# Altium integrated library National Semiconductor Temperature Sensor.IntLib: 361 symbols (part 1 of 9)
Pins are listed as number, name and electrical type; pins without a type are passive.

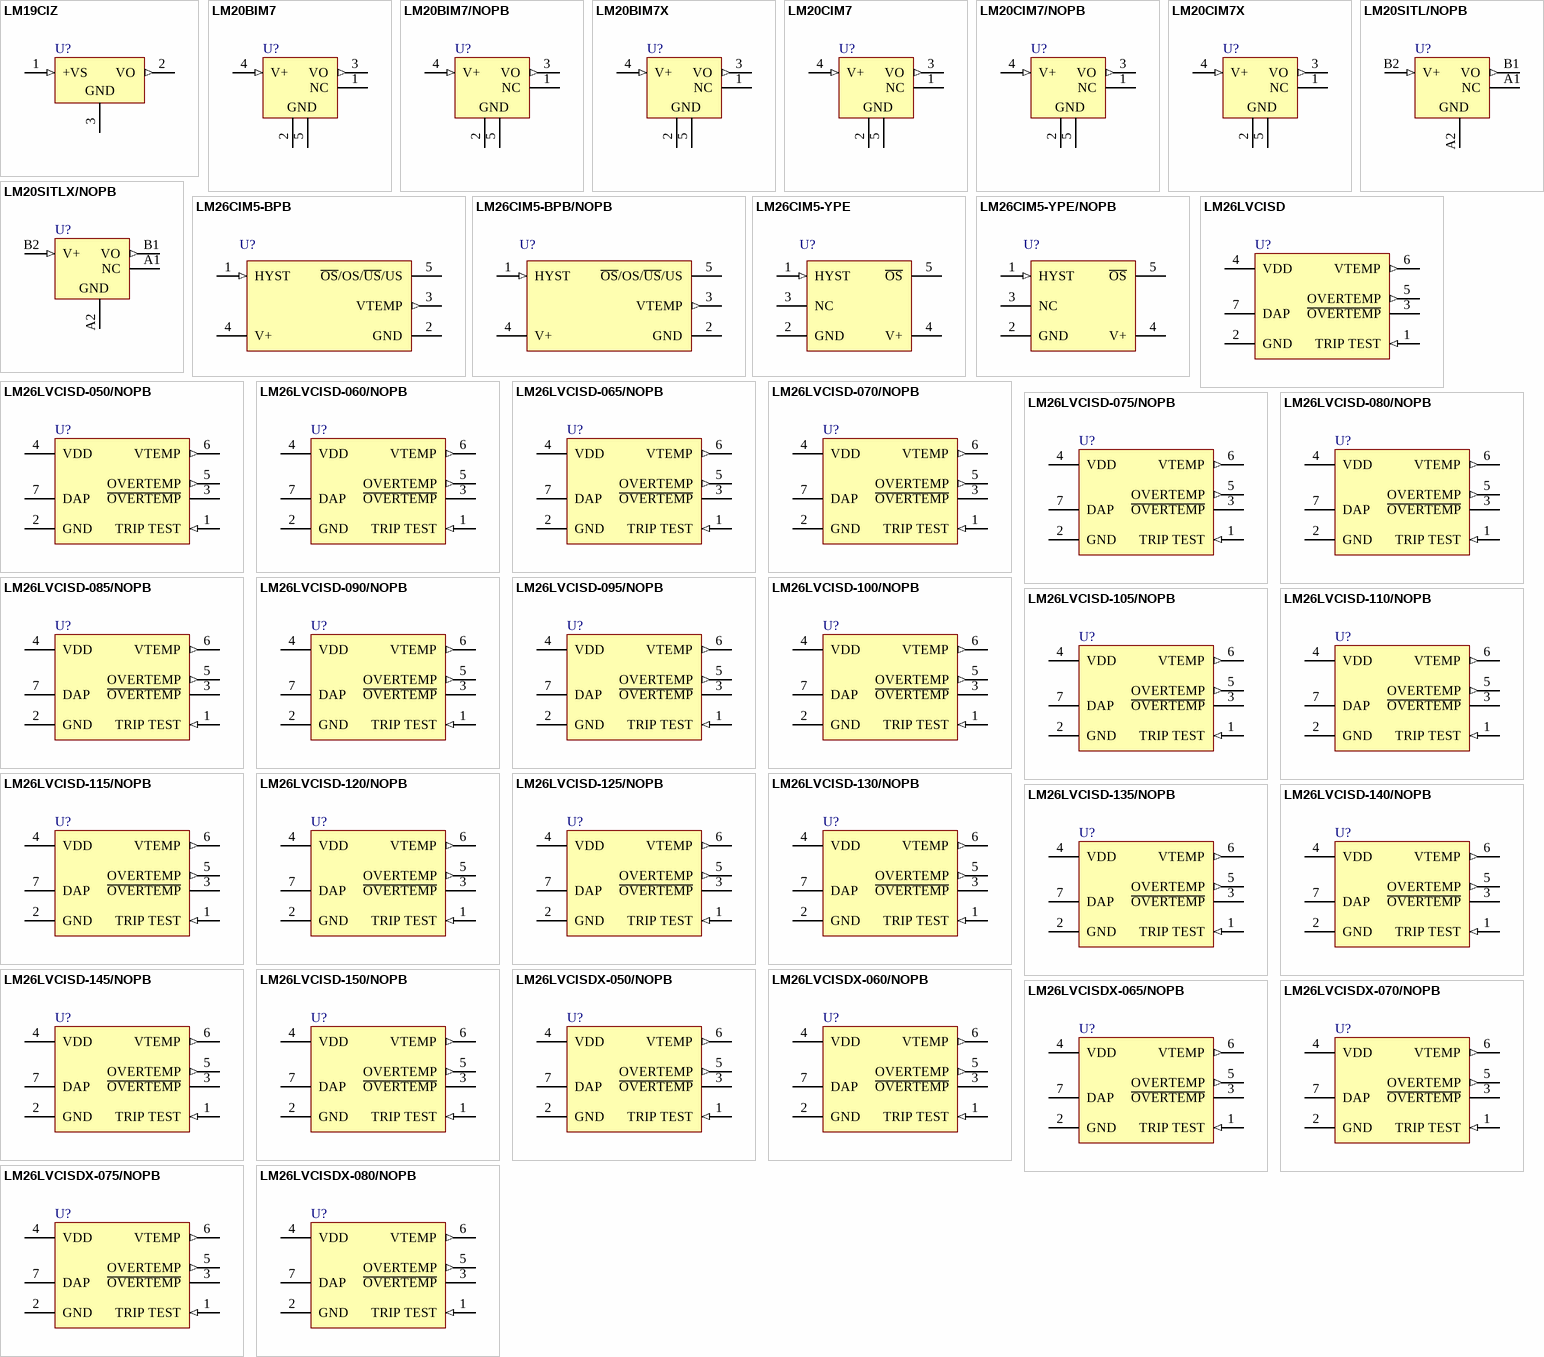
[diagram p0: symbols LM19CIZ to LM26LVCISDX-080/NOPB]

## LM19CIZ
designator U?
2.4V, 10µA Temperature Sensor, 3-pin TO-92; PartNumber: LM19CIZ; Manufacturer: National Semiconductor; PackageTopMarking: NSXYTT*LM19*CIZ; PowerWise: N; CompType: Temp Sensor IC; High-Reliability: Y; DatasheetVersion: Jan-2010; PackageVersion: revG, Sep-2000; PackageReference: Z03A; PackageDescription: TO-92, Molded, 3 Lead; RoHS: N; PinCount: 3; Code_JEDEC: TO-226-AA; ComponentLink1Description: Manufacturer URL; ComponentLink1URL: http://www.national.com/; ComponentLink2Description: LM19 Datasheet; ComponentLink2URL: http://www.national.com/ds/LM/LM19.pdf; ComponentLink3Description: LM19 Web Page; ComponentLink3URL: http://www.national.com/pf/LM/LM19.html; ComponentLink4Description: Z03A Package Page; ComponentLink4URL: http://www.national.com/packaging/folders/z03a.html
footprint Z03A (TO, Flat Index; 3 In-Line, Axial Leads; Body Dia. 5mm; Leads 0.55 x 0.50 mm (max))
pins: 1 +VS (in), 2 VO (out), 3 GND (power)

## LM20BIM7
designator U?
2.4V, 10µA Temperature Sensor, 5-pin SC-70 Micro SMD; PartNumber: LM20BIM7; Manufacturer: National Semiconductor; PackageTopMarking: T2B*XTT; PowerWise: N; CompType: Temp Sensor IC; High-Reliability: Y; DatasheetVersion: Jan-2010; PackageVersion: revD, Jun-2007; PackageReference: MAA05A; PackageDescription: Molded SC-70, 2 x 1.25 x .9mm, 5 Lead, 0.65mm Pitch; RoHS: N; PinCount: 5; Code_JEITA: SC-88A; Code_JEDEC: MO-203-AA; Code_IPC: SOT353-5; ComponentLink1Description: Manufacturer URL; ComponentLink1URL: http://www.national.com/; ComponentLink2Description: LM20 Datasheet; ComponentLink2URL: http://www.national.com/ds/LM/LM20.pdf; ComponentLink3Description: LM20 Web Page; ComponentLink3URL: http://www.national.com/pf/LM/LM20.html; ComponentLink4Description: MAA05A Package Page; ComponentLink4URL: http://www.national.com/packaging/folders/maa05a.html
footprint MAA05A_N (SOT353, 5-Leads, Body 2x1.3mm, Pitch 0.65mm, Lead Span 2.1mm, IPC Medium Density)
footprint MAA05A_L (SOT353, 5-Leads, Body 2x1.3mm, Pitch 0.65mm, Lead Span 2.1mm, IPC High Density)
footprint MAA05A_M (SOT353, 5-Leads, Body 2x1.3mm, Pitch 0.65mm, Lead Span 2.1mm, IPC Low Density)
pins: 1 NC "Not Connected", 2 GND (power) "Ground", 3 VO (out), 4 V+ (in), 5 GND (power) "Ground"

## LM20BIM7/NOPB
designator U?
2.4V, 10µA Temperature Sensor, 5-pin SC-70 Micro SMD, Pb-Free; PartNumber: LM20BIM7/NOPB; Manufacturer: National Semiconductor; PackageTopMarking: T2B*XTT; PowerWise: N; CompType: Temp Sensor IC; High-Reliability: Y; DatasheetVersion: Jan-2010; PackageVersion: revD, Jun-2007; PackageReference: MAA05A; PackageDescription: Molded SC-70, 2 x 1.25 x .9mm, 5 Lead, 0.65mm Pitch; RoHS: Y; PinCount: 5; Code_JEITA: SC-88A; Code_JEDEC: MO-203-AA; Code_IPC: SOT353-5; ComponentLink1Description: Manufacturer URL; ComponentLink1URL: http://www.national.com/; ComponentLink2Description: LM20 Datasheet; ComponentLink2URL: http://www.national.com/ds/LM/LM20.pdf; ComponentLink3Description: LM20 Web Page; ComponentLink3URL: http://www.national.com/pf/LM/LM20.html; ComponentLink4Description: MAA05A Package Page; ComponentLink4URL: http://www.national.com/packaging/folders/maa05a.html
footprint MAA05A_N (SOT353, 5-Leads, Body 2x1.3mm, Pitch 0.65mm, Lead Span 2.1mm, IPC Medium Density)
footprint MAA05A_L (SOT353, 5-Leads, Body 2x1.3mm, Pitch 0.65mm, Lead Span 2.1mm, IPC High Density)
footprint MAA05A_M (SOT353, 5-Leads, Body 2x1.3mm, Pitch 0.65mm, Lead Span 2.1mm, IPC Low Density)
pins: 1 NC "Not Connected", 2 GND (power) "Ground", 3 VO (out), 4 V+ (in), 5 GND (power) "Ground"

## LM20BIM7X
designator U?
2.4V, 10µA Temperature Sensor, 5-pin SC-70 Micro SMD; PartNumber: LM20BIM7X; Manufacturer: National Semiconductor; PackageTopMarking: T2B*XTT; PowerWise: N; CompType: Temp Sensor IC; High-Reliability: Y; DatasheetVersion: Jan-2010; PackageVersion: revD, Jun-2007; PackageReference: MAA05A; PackageDescription: Molded SC-70, 2 x 1.25 x .9mm, 5 Lead, 0.65mm Pitch; RoHS: N; PinCount: 5; Code_JEITA: SC-88A; Code_JEDEC: MO-203-AA; Code_IPC: SOT353-5; ComponentLink1Description: Manufacturer URL; ComponentLink1URL: http://www.national.com/; ComponentLink2Description: LM20 Datasheet; ComponentLink2URL: http://www.national.com/ds/LM/LM20.pdf; ComponentLink3Description: LM20 Web Page; ComponentLink3URL: http://www.national.com/pf/LM/LM20.html; ComponentLink4Description: MAA05A Package Page; ComponentLink4URL: http://www.national.com/packaging/folders/maa05a.html
footprint MAA05A_N (SOT353, 5-Leads, Body 2x1.3mm, Pitch 0.65mm, Lead Span 2.1mm, IPC Medium Density)
footprint MAA05A_L (SOT353, 5-Leads, Body 2x1.3mm, Pitch 0.65mm, Lead Span 2.1mm, IPC High Density)
footprint MAA05A_M (SOT353, 5-Leads, Body 2x1.3mm, Pitch 0.65mm, Lead Span 2.1mm, IPC Low Density)
pins: 1 NC "Not Connected", 2 GND (power) "Ground", 3 VO (out), 4 V+ (in), 5 GND (power) "Ground"

## LM20CIM7
designator U?
2.4V, 10uA Temperature Sensor, 5-pin SC-70 Micro SMD; PartNumber: LM20CIM7; Manufacturer: National Semiconductor; PackageTopMarking: T2C*XTT; PowerWise: N; CompType: Temp Sensor IC; High-Reliability: Y; DatasheetVersion: Jan-2010; PackageVersion: revD, Jun-2007; PackageReference: MAA05A; PackageDescription: Molded SC-70, 2 x 1.25 x .9mm, 5 Lead, 0.65mm Pitch; RoHS: N; PinCount: 5; Code_JEITA: SC-88A; Code_JEDEC: MO-203-AA; Code_IPC: SOT353-5; ComponentLink1Description: Manufacturer URL; ComponentLink1URL: http://www.national.com/; ComponentLink2Description: LM20 Datasheet; ComponentLink2URL: http://www.national.com/ds/LM/LM20.pdf; ComponentLink3Description: LM20 Web Page; ComponentLink3URL: http://www.national.com/pf/LM/LM20.html; ComponentLink4Description: MAA05A Package Page; ComponentLink4URL: http://www.national.com/packaging/folders/maa05a.html
footprint MAA05A_N (SOT353, 5-Leads, Body 2x1.3mm, Pitch 0.65mm, Lead Span 2.1mm, IPC Medium Density)
footprint MAA05A_L (SOT353, 5-Leads, Body 2x1.3mm, Pitch 0.65mm, Lead Span 2.1mm, IPC High Density)
footprint MAA05A_M (SOT353, 5-Leads, Body 2x1.3mm, Pitch 0.65mm, Lead Span 2.1mm, IPC Low Density)
pins: 1 NC "Not Connected", 2 GND (power) "Ground", 3 VO (out), 4 V+ (in), 5 GND (power) "Ground"

## LM20CIM7/NOPB
designator U?
2.4V, 10µA Temperature Sensor, 5-pin SC-70 Micro SMD, Pb-Free; PartNumber: LM20CIM7/NOPB; Manufacturer: National Semiconductor; PackageTopMarking: T2C*XTT; PowerWise: N; CompType: Temp Sensor IC; High-Reliability: Y; DatasheetVersion: Jan-2010; PackageVersion: revD, Jun-2007; PackageReference: MAA05A; PackageDescription: Molded SC-70, 2 x 1.25 x .9mm, 5 Lead, 0.65mm Pitch; RoHS: Y; PinCount: 5; Code_JEITA: SC-88A; Code_JEDEC: MO-203-AA; Code_IPC: SOT353-5; ComponentLink1Description: Manufacturer URL; ComponentLink1URL: http://www.national.com/; ComponentLink2Description: LM20 Datasheet; ComponentLink2URL: http://www.national.com/ds/LM/LM20.pdf; ComponentLink3Description: LM20 Web Page; ComponentLink3URL: http://www.national.com/pf/LM/LM20.html; ComponentLink4Description: MAA05A Package Page; ComponentLink4URL: http://www.national.com/packaging/folders/maa05a.html
footprint MAA05A_N (SOT353, 5-Leads, Body 2x1.3mm, Pitch 0.65mm, Lead Span 2.1mm, IPC Medium Density)
footprint MAA05A_L (SOT353, 5-Leads, Body 2x1.3mm, Pitch 0.65mm, Lead Span 2.1mm, IPC High Density)
footprint MAA05A_M (SOT353, 5-Leads, Body 2x1.3mm, Pitch 0.65mm, Lead Span 2.1mm, IPC Low Density)
pins: 1 NC "Not Connected", 2 GND (power) "Ground", 3 VO (out), 4 V+ (in), 5 GND (power) "Ground"

## LM20CIM7X
designator U?
2.4V, 10µA Temperature Sensor, 5-pin SC-70 Micro SMD; PartNumber: LM20CIM7X; Manufacturer: National Semiconductor; PackageTopMarking: T2C*XTT; PowerWise: N; CompType: Temp Sensor IC; High-Reliability: Y; DatasheetVersion: Jan-2010; PackageVersion: revD, Jun-2007; PackageReference: MAA05A; PackageDescription: Molded SC-70, 2 x 1.25 x .9mm, 5 Lead, 0.65mm Pitch; RoHS: N; PinCount: 5; Code_JEITA: SC-88A; Code_JEDEC: MO-203-AA; Code_IPC: SOT353-5; ComponentLink1Description: Manufacturer URL; ComponentLink1URL: http://www.national.com/; ComponentLink2Description: LM20 Datasheet; ComponentLink2URL: http://www.national.com/ds/LM/LM20.pdf; ComponentLink3Description: LM20 Web Page; ComponentLink3URL: http://www.national.com/pf/LM/LM20.html; ComponentLink4Description: MAA05A Package Page; ComponentLink4URL: http://www.national.com/packaging/folders/maa05a.html
footprint MAA05A_N (SOT353, 5-Leads, Body 2x1.3mm, Pitch 0.65mm, Lead Span 2.1mm, IPC Medium Density)
footprint MAA05A_L (SOT353, 5-Leads, Body 2x1.3mm, Pitch 0.65mm, Lead Span 2.1mm, IPC High Density)
footprint MAA05A_M (SOT353, 5-Leads, Body 2x1.3mm, Pitch 0.65mm, Lead Span 2.1mm, IPC Low Density)
pins: 1 NC "Not Connected", 2 GND (power) "Ground", 3 VO (out), 4 V+ (in), 5 GND (power) "Ground"

## LM20SITL/NOPB
designator U?
2.4V, 10µA Temperature Sensor, 4-pin SC-70 Micro SMD, Pb-Free; PartNumber: LM20SITL/NOPB; Manufacturer: National Semiconductor; PackageTopMarking: X*I; PowerWise: N; CompType: Temp Sensor IC; High-Reliability: Y; DatasheetVersion: Jan-2010; PackageVersion: revD, Mar-2005; PackageReference: TLA04ZZA; PackageDescription: Thin Micro SMD, 4 Bump (Large), 0.5mm Pitch; RoHS: Y; PinCount: 4; Code_JEDEC: MO-211-BA; ComponentLink1Description: Manufacturer URL; ComponentLink1URL: http://www.national.com/; ComponentLink2Description: LM20 Datasheet; ComponentLink2URL: http://www.national.com/ds/LM/LM20.pdf; ComponentLink3Description: LM20 Web Page; ComponentLink3URL: http://www.national.com/pf/LM/LM20.html; ComponentLink4Description: TLA04ZZA Package Page; ComponentLink4URL: http://www.national.com/packaging/folders/tla04zza.html
footprint TLA04ZZA (Micro SMD, 4-Leads, Body 0.96x0.96mm, Pitch 0.5mm, NSC Recommended)
pins: A1 NC "Ground", A2 GND (power) "Ground", B1 VO (out), B2 V+ (in)

## LM20SITLX/NOPB
designator U?
2.4V, 10µA Temperature Sensor, 4-pin SC-70 Micro SMD, Pb-Free; PartNumber: LM20SITLX/NOPB; Manufacturer: National Semiconductor; PackageTopMarking: X*I; PowerWise: N; CompType: Temp Sensor IC; High-Reliability: Y; DatasheetVersion: Jan-2010; PackageVersion: revD, Mar-2005; PackageReference: TLA04ZZA; PackageDescription: Thin Micro SMD, 4 Bump (Large), 0.5mm Pitch; RoHS: Y; PinCount: 4; Code_JEDEC: MO-211-BA; ComponentLink1Description: Manufacturer URL; ComponentLink1URL: http://www.national.com/; ComponentLink2Description: LM20 Datasheet; ComponentLink2URL: http://www.national.com/ds/LM/LM20.pdf; ComponentLink3Description: LM20 Web Page; ComponentLink3URL: http://www.national.com/pf/LM/LM20.html; ComponentLink4Description: TLA04ZZA Package Page; ComponentLink4URL: http://www.national.com/packaging/folders/tla04zza.html
footprint TLA04ZZA (Micro SMD, 4-Leads, Body 0.96x0.96mm, Pitch 0.5mm, NSC Recommended)
pins: A1 NC "Ground", A2 GND (power) "Ground", B1 VO (out), B2 V+ (in)

## LM26CIM5-BPB
designator U?
±3°C Accurate, Factory Preset Thermostat, 5-pin SOT-23; PartNumber: LM26CIM5-BPB; Manufacturer: National Semiconductor; PackageTopMarking: TBPB*XTT; PowerWise: N; CompType: Temp Sensor IC; High-Reliability: Y; DatasheetVersion: Sep-2009; PackageVersion: revD, Aug-2008; PackageReference: MF05A; PackageDescription: Molded SOT-23, .115 x .063 x .040 in Body, 5 Lead, .0375 in Pitch; RoHS: Y; PinCount: 5; ComponentLink1Description: Manufacturer URL; ComponentLink1URL: http://www.national.com/; ComponentLink2Description: LM26 Datasheet; ComponentLink2URL: http://www.national.com/ds/LM/LM26.pdf; ComponentLink3Description: LM26 Web Page; ComponentLink3URL: http://www.national.com/pf/LM/LM26.html; ComponentLink4Description: MF05A Package Page; ComponentLink4URL: http://www.national.com/packaging/folders/mf05a.html
footprint MF05A_N (SOT23, 5-Leads, Body 2.9x1.6mm, Pitch 0.95mm, Lead Span 2.8mm, IPC Medium Density)
footprint MF05A_L (SOT23, 5-Leads, Body 2.9x1.6mm, Pitch 0.95mm, Lead Span 2.8mm, IPC High Density)
footprint MF05A_M (SOT23, 5-Leads, Body 2.9x1.6mm, Pitch 0.95mm, Lead Span 2.8mm, IPC Low Density)
pins: 1 HYST (in), 2 GND (power), 3 VTEMP (out), 4 V+ (power), 5 ~{OS}/OS/~{US}/US

## LM26CIM5-BPB/NOPB
designator U?
±3°C Accurate, Factory Preset Thermostat, 5-pin SOT-23, Pb-Free; PartNumber: LM26CIM5-BPB/NOPB; Manufacturer: National Semiconductor; PackageTopMarking: TBPB*XTT; PowerWise: N; CompType: Temp Sensor IC; High-Reliability: Y; DatasheetVersion: Sep-2009; PackageVersion: revD, Aug-2008; PackageReference: MF05A; PackageDescription: Molded SOT-23, .115 x .063 x .040 in Body, 5 Lead, .0375 in Pitch; RoHS: Y; PinCount: 5; ComponentLink1Description: Manufacturer URL; ComponentLink1URL: http://www.national.com/; ComponentLink2Description: LM26 Datasheet; ComponentLink2URL: http://www.national.com/ds/LM/LM26.pdf; ComponentLink3Description: LM26 Web Page; ComponentLink3URL: http://www.national.com/pf/LM/LM26.html; ComponentLink4Description: MF05A Package Page; ComponentLink4URL: http://www.national.com/packaging/folders/mf05a.html
footprint MF05A_N (SOT23, 5-Leads, Body 2.9x1.6mm, Pitch 0.95mm, Lead Span 2.8mm, IPC Medium Density)
footprint MF05A_L (SOT23, 5-Leads, Body 2.9x1.6mm, Pitch 0.95mm, Lead Span 2.8mm, IPC High Density)
footprint MF05A_M (SOT23, 5-Leads, Body 2.9x1.6mm, Pitch 0.95mm, Lead Span 2.8mm, IPC Low Density)
pins: 1 HYST (in), 2 GND (power), 3 VTEMP (out), 4 V+ (power), 5 ~{OS}/OS/~{US}/US

## LM26CIM5-YPE
designator U?
±3°C Accurate, Factory Preset Thermostat, 5-pin SOT-23; PartNumber: LM26CIM5-YPE; Manufacturer: National Semiconductor; PackageTopMarking: TYPE*XTT; PowerWise: Y; CompType: Temp Sensor IC; DatasheetVersion: Aug-2008; PackageVersion: revD, Aug-2008; PackageReference: MF05A; PackageDescription: Molded SOT-23, .115 x .063 x .040 in Body, 5 Lead, .0375 in Pitch; RoHS: N; PinCount: 5; High-Reliability: Y; ComponentLink1Description: Manufacturer URL; ComponentLink1URL: http://www.national.com/; ComponentLink2Description: LM26 Datasheet; ComponentLink2URL: http://www.national.com/ds/LM/LM26NV.pdf; ComponentLink3Description: LM26 Web Page; ComponentLink3URL: http://www.national.com/pf/LM/LM26.html; ComponentLink4Description: MF05A Package Page; ComponentLink4URL: http://www.national.com/packaging/folders/mf05a.html
footprint MF05A_N (SOT23, 5-Leads, Body 2.9x1.6mm, Pitch 0.95mm, Lead Span 2.8mm, IPC Medium Density)
footprint MF05A_L (SOT23, 5-Leads, Body 2.9x1.6mm, Pitch 0.95mm, Lead Span 2.8mm, IPC High Density)
footprint MF05A_M (SOT23, 5-Leads, Body 2.9x1.6mm, Pitch 0.95mm, Lead Span 2.8mm, IPC Low Density)
pins: 1 HYST (in), 2 GND (power), 3 NC, 4 V+ (power), 5 ~{OS} (oc)

## LM26CIM5-YPE/NOPB
designator U?
±3°C Accurate, Factory Preset Thermostat (LM26 without Vtemp), 5-pin SOT-23, Pb-Free; PartNumber: LM26CIM5-YPE/NOPB; Manufacturer: National Semiconductor; PackageTopMarking: TYPE*XTT; PowerWise: Y; CompType: Temp Sensor IC; DatasheetVersion: Aug-2008; PackageVersion: revD, Aug-2008; PackageReference: MF05A; PackageDescription: Molded SOT-23, .115 x .063 x .040 in Body, 5 Lead, .0375 in Pitch; RoHS: Y; PinCount: 5; High-Reliability: Y; ComponentLink1Description: Manufacturer URL; ComponentLink1URL: http://www.national.com/; ComponentLink2Description: LM26 Datasheet; ComponentLink2URL: http://www.national.com/ds/LM/LM26NV.pdf; ComponentLink3Description: LM26 Web Page; ComponentLink3URL: http://www.national.com/pf/LM/LM26.html; ComponentLink4Description: MF05A Package Page; ComponentLink4URL: http://www.national.com/packaging/folders/mf05a.html
footprint MF05A_N (SOT23, 5-Leads, Body 2.9x1.6mm, Pitch 0.95mm, Lead Span 2.8mm, IPC Medium Density)
footprint MF05A_L (SOT23, 5-Leads, Body 2.9x1.6mm, Pitch 0.95mm, Lead Span 2.8mm, IPC High Density)
footprint MF05A_M (SOT23, 5-Leads, Body 2.9x1.6mm, Pitch 0.95mm, Lead Span 2.8mm, IPC Low Density)
pins: 1 HYST (in), 2 GND (power), 3 NC, 4 V+ (power), 5 ~{OS} (oc)

## LM26LVCISD
designator U?
1.6V Factory Preset Temperature Switch and Temperature Sensor, 6-pin LLP; PartNumber: LM26LVCISD; Manufacturer: National Semiconductor; PackageTopMarking: XTT*XPE; PowerWise: Y; CompType: Temp Sensor IC; DatasheetVersion: Sep-2011; PackageVersion: revA, Nov-2003; PackageReference: SDB06A; PackageDescription: LLP, Plastic, Dual, 2.2 x 2.5 x 0.8mm Body, 6 Lead, 0.65mm Pitch, No Pullback; RoHS: N; PinCount: 6; High-Reliability: Y; ComponentLink1Description: Manufacturer URL; ComponentLink1URL: http://www.national.com/; ComponentLink2Description: LM26LV Datasheet; ComponentLink2URL: http://www.national.com/ds/LM/LM26LV.pdf; ComponentLink3Description: LM26LV Web Page; ComponentLink3URL: http://www.national.com/pf/LM/LM26LV.html; ComponentLink4Description: SDB06A Package Page; ComponentLink4URL: http://www.national.com/packaging/folders/sdb06a.html
footprint SDB06A (SON, 6-Leads, Body 2.2x2.5mm, Pitch 0.65mm, NSC Recommended (SC-70 Land))
pins: 1 TRIP TEST (in), 2 GND (power) "Ground", 3 ~{OVERTEMP} (oc), 4 VDD (power), 5 OVERTEMP (out), 6 VTEMP (out), 7 DAP (power) "Ground"

## LM26LVCISD-050/NOPB
designator U?
1.6V Factory Preset Temperature Switch and Temperature Sensor, 6-pin LLP, Pb-Free, 1000 Reel; PartNumber: LM26LVCISD-050/NOPB; Manufacturer: National Semiconductor; PackageTopMarking: XTT*050; PowerWise: Y; CompType: Temp Sensor IC; DatasheetVersion: Sep-2011; PackageVersion: revA, Nov-2003; PackageReference: SDB06A; PackageDescription: LLP, Plastic, Dual, 2.2 x 2.5 x 0.8mm Body, 6 Lead, 0.65mm Pitch, No Pullback; RoHS: Y; PinCount: 6; High-Reliability: Y; ComponentLink1Description: Manufacturer URL; ComponentLink1URL: http://www.national.com/; ComponentLink2Description: LM26LV Datasheet; ComponentLink2URL: http://www.national.com/ds/LM/LM26LV.pdf; ComponentLink3Description: LM26LV Web Page; ComponentLink3URL: http://www.national.com/pf/LM/LM26LV.html; ComponentLink4Description: SDB06A Package Page; ComponentLink4URL: http://www.national.com/packaging/folders/sdb06a.html
footprint SDB06A (SON, 6-Leads, Body 2.2x2.5mm, Pitch 0.65mm, NSC Recommended (SC-70 Land))
pins: 1 TRIP TEST (in), 2 GND (power) "Ground", 3 ~{OVERTEMP} (oc), 4 VDD (power), 5 OVERTEMP (out), 6 VTEMP (out), 7 DAP (power) "Ground"

## LM26LVCISD-060/NOPB
designator U?
1.6V Factory Preset Temperature Switch and Temperature Sensor, 6-pin LLP, Pb-Free, 1000 Reel; PartNumber: LM26LVCISD-060/NOPB; Manufacturer: National Semiconductor; PackageTopMarking: XTT*060; PowerWise: Y; CompType: Temp Sensor IC; DatasheetVersion: Sep-2011; PackageVersion: revA, Nov-2003; PackageReference: SDB06A; PackageDescription: LLP, Plastic, Dual, 2.2 x 2.5 x 0.8mm Body, 6 Lead, 0.65mm Pitch, No Pullback; RoHS: Y; PinCount: 6; High-Reliability: Y; ComponentLink1Description: Manufacturer URL; ComponentLink1URL: http://www.national.com/; ComponentLink2Description: LM26LV Datasheet; ComponentLink2URL: http://www.national.com/ds/LM/LM26LV.pdf; ComponentLink3Description: LM26LV Web Page; ComponentLink3URL: http://www.national.com/pf/LM/LM26LV.html; ComponentLink4Description: SDB06A Package Page; ComponentLink4URL: http://www.national.com/packaging/folders/sdb06a.html
footprint SDB06A (SON, 6-Leads, Body 2.2x2.5mm, Pitch 0.65mm, NSC Recommended (SC-70 Land))
pins: 1 TRIP TEST (in), 2 GND (power) "Ground", 3 ~{OVERTEMP} (oc), 4 VDD (power), 5 OVERTEMP (out), 6 VTEMP (out), 7 DAP (power) "Ground"

## LM26LVCISD-065/NOPB
designator U?
1.6V Factory Preset Temperature Switch and Temperature Sensor, 6-pin LLP, Pb-Free, 1000 Reel; PartNumber: LM26LVCISD-065/NOPB; Manufacturer: National Semiconductor; PackageTopMarking: XTT*065; PowerWise: Y; CompType: Temp Sensor IC; DatasheetVersion: Sep-2011; PackageVersion: revA, Nov-2003; PackageReference: SDB06A; PackageDescription: LLP, Plastic, Dual, 2.2 x 2.5 x 0.8mm Body, 6 Lead, 0.65mm Pitch, No Pullback; RoHS: Y; PinCount: 6; High-Reliability: Y; ComponentLink1Description: Manufacturer URL; ComponentLink1URL: http://www.national.com/; ComponentLink2Description: LM26LV Datasheet; ComponentLink2URL: http://www.national.com/ds/LM/LM26LV.pdf; ComponentLink3Description: LM26LV Web Page; ComponentLink3URL: http://www.national.com/pf/LM/LM26LV.html; ComponentLink4Description: SDB06A Package Page; ComponentLink4URL: http://www.national.com/packaging/folders/sdb06a.html
footprint SDB06A (SON, 6-Leads, Body 2.2x2.5mm, Pitch 0.65mm, NSC Recommended (SC-70 Land))
pins: 1 TRIP TEST (in), 2 GND (power) "Ground", 3 ~{OVERTEMP} (oc), 4 VDD (power), 5 OVERTEMP (out), 6 VTEMP (out), 7 DAP (power) "Ground"

## LM26LVCISD-070/NOPB
designator U?
1.6V Factory Preset Temperature Switch and Temperature Sensor, 6-pin LLP, Pb-Free, 1000 Reel; PartNumber: LM26LVCISD-070/NOPB; Manufacturer: National Semiconductor; PackageTopMarking: XTT*070; PowerWise: Y; CompType: Temp Sensor IC; DatasheetVersion: Sep-2011; PackageVersion: revA, Nov-2003; PackageReference: SDB06A; PackageDescription: LLP, Plastic, Dual, 2.2 x 2.5 x 0.8mm Body, 6 Lead, 0.65mm Pitch, No Pullback; RoHS: Y; PinCount: 6; High-Reliability: Y; ComponentLink1Description: Manufacturer URL; ComponentLink1URL: http://www.national.com/; ComponentLink2Description: LM26LV Datasheet; ComponentLink2URL: http://www.national.com/ds/LM/LM26LV.pdf; ComponentLink3Description: LM26LV Web Page; ComponentLink3URL: http://www.national.com/pf/LM/LM26LV.html; ComponentLink4Description: SDB06A Package Page; ComponentLink4URL: http://www.national.com/packaging/folders/sdb06a.html
footprint SDB06A (SON, 6-Leads, Body 2.2x2.5mm, Pitch 0.65mm, NSC Recommended (SC-70 Land))
pins: 1 TRIP TEST (in), 2 GND (power) "Ground", 3 ~{OVERTEMP} (oc), 4 VDD (power), 5 OVERTEMP (out), 6 VTEMP (out), 7 DAP (power) "Ground"

## LM26LVCISD-075/NOPB
designator U?
1.6V Factory Preset Temperature Switch and Temperature Sensor, 6-pin LLP, Pb-Free, 1000 Reel; PartNumber: LM26LVCISD-075/NOPB; Manufacturer: National Semiconductor; PackageTopMarking: XTT*075; PowerWise: Y; CompType: Temp Sensor IC; DatasheetVersion: Sep-2011; PackageVersion: revA, Nov-2003; PackageReference: SDB06A; PackageDescription: LLP, Plastic, Dual, 2.2 x 2.5 x 0.8mm Body, 6 Lead, 0.65mm Pitch, No Pullback; RoHS: Y; PinCount: 6; High-Reliability: Y; ComponentLink1Description: Manufacturer URL; ComponentLink1URL: http://www.national.com/; ComponentLink2Description: LM26LV Datasheet; ComponentLink2URL: http://www.national.com/ds/LM/LM26LV.pdf; ComponentLink3Description: LM26LV Web Page; ComponentLink3URL: http://www.national.com/pf/LM/LM26LV.html; ComponentLink4Description: SDB06A Package Page; ComponentLink4URL: http://www.national.com/packaging/folders/sdb06a.html
footprint SDB06A (SON, 6-Leads, Body 2.2x2.5mm, Pitch 0.65mm, NSC Recommended (SC-70 Land))
pins: 1 TRIP TEST (in), 2 GND (power) "Ground", 3 ~{OVERTEMP} (oc), 4 VDD (power), 5 OVERTEMP (out), 6 VTEMP (out), 7 DAP (power) "Ground"

## LM26LVCISD-080/NOPB
designator U?
1.6V Factory Preset Temperature Switch and Temperature Sensor, 6-pin LLP, Pb-Free, 1000 Reel; PartNumber: LM26LVCISD-080/NOPB; Manufacturer: National Semiconductor; PackageTopMarking: XTT*080; PowerWise: Y; CompType: Temp Sensor IC; DatasheetVersion: Sep-2011; PackageVersion: revA, Nov-2003; PackageReference: SDB06A; PackageDescription: LLP, Plastic, Dual, 2.2 x 2.5 x 0.8mm Body, 6 Lead, 0.65mm Pitch, No Pullback; RoHS: Y; PinCount: 6; High-Reliability: Y; ComponentLink1Description: Manufacturer URL; ComponentLink1URL: http://www.national.com/; ComponentLink2Description: LM26LV Datasheet; ComponentLink2URL: http://www.national.com/ds/LM/LM26LV.pdf; ComponentLink3Description: LM26LV Web Page; ComponentLink3URL: http://www.national.com/pf/LM/LM26LV.html; ComponentLink4Description: SDB06A Package Page; ComponentLink4URL: http://www.national.com/packaging/folders/sdb06a.html
footprint SDB06A (SON, 6-Leads, Body 2.2x2.5mm, Pitch 0.65mm, NSC Recommended (SC-70 Land))
pins: 1 TRIP TEST (in), 2 GND (power) "Ground", 3 ~{OVERTEMP} (oc), 4 VDD (power), 5 OVERTEMP (out), 6 VTEMP (out), 7 DAP (power) "Ground"

## LM26LVCISD-085/NOPB
designator U?
1.6V Factory Preset Temperature Switch and Temperature Sensor, 6-pin LLP, Pb-Free, 1000 Reel; PartNumber: LM26LVCISD-085/NOPB; Manufacturer: National Semiconductor; PackageTopMarking: XTT*085; PowerWise: Y; CompType: Temp Sensor IC; DatasheetVersion: Sep-2011; PackageVersion: revA, Nov-2003; PackageReference: SDB06A; PackageDescription: LLP, Plastic, Dual, 2.2 x 2.5 x 0.8mm Body, 6 Lead, 0.65mm Pitch, No Pullback; RoHS: Y; PinCount: 6; High-Reliability: Y; ComponentLink1Description: Manufacturer URL; ComponentLink1URL: http://www.national.com/; ComponentLink2Description: LM26LV Datasheet; ComponentLink2URL: http://www.national.com/ds/LM/LM26LV.pdf; ComponentLink3Description: LM26LV Web Page; ComponentLink3URL: http://www.national.com/pf/LM/LM26LV.html; ComponentLink4Description: SDB06A Package Page; ComponentLink4URL: http://www.national.com/packaging/folders/sdb06a.html
footprint SDB06A (SON, 6-Leads, Body 2.2x2.5mm, Pitch 0.65mm, NSC Recommended (SC-70 Land))
pins: 1 TRIP TEST (in), 2 GND (power) "Ground", 3 ~{OVERTEMP} (oc), 4 VDD (power), 5 OVERTEMP (out), 6 VTEMP (out), 7 DAP (power) "Ground"

## LM26LVCISD-090/NOPB
designator U?
1.6V Factory Preset Temperature Switch and Temperature Sensor, 6-pin LLP, Pb-Free, 1000 Reel; PartNumber: LM26LVCISD-090/NOPB; Manufacturer: National Semiconductor; PackageTopMarking: XTT*090; PowerWise: Y; CompType: Temp Sensor IC; DatasheetVersion: Sep-2011; PackageVersion: revA, Nov-2003; PackageReference: SDB06A; PackageDescription: LLP, Plastic, Dual, 2.2 x 2.5 x 0.8mm Body, 6 Lead, 0.65mm Pitch, No Pullback; RoHS: Y; PinCount: 6; High-Reliability: Y; ComponentLink1Description: Manufacturer URL; ComponentLink1URL: http://www.national.com/; ComponentLink2Description: LM26LV Datasheet; ComponentLink2URL: http://www.national.com/ds/LM/LM26LV.pdf; ComponentLink3Description: LM26LV Web Page; ComponentLink3URL: http://www.national.com/pf/LM/LM26LV.html; ComponentLink4Description: SDB06A Package Page; ComponentLink4URL: http://www.national.com/packaging/folders/sdb06a.html
footprint SDB06A (SON, 6-Leads, Body 2.2x2.5mm, Pitch 0.65mm, NSC Recommended (SC-70 Land))
pins: 1 TRIP TEST (in), 2 GND (power) "Ground", 3 ~{OVERTEMP} (oc), 4 VDD (power), 5 OVERTEMP (out), 6 VTEMP (out), 7 DAP (power) "Ground"

## LM26LVCISD-095/NOPB
designator U?
1.6V Factory Preset Temperature Switch and Temperature Sensor, 6-pin LLP, Pb-Free, 1000 Reel; PartNumber: LM26LVCISD-095/NOPB; Manufacturer: National Semiconductor; PackageTopMarking: XTT*095; PowerWise: Y; CompType: Temp Sensor IC; DatasheetVersion: Sep-2011; PackageVersion: revA, Nov-2003; PackageReference: SDB06A; PackageDescription: LLP, Plastic, Dual, 2.2 x 2.5 x 0.8mm Body, 6 Lead, 0.65mm Pitch, No Pullback; RoHS: Y; PinCount: 6; High-Reliability: Y; ComponentLink1Description: Manufacturer URL; ComponentLink1URL: http://www.national.com/; ComponentLink2Description: LM26LV Datasheet; ComponentLink2URL: http://www.national.com/ds/LM/LM26LV.pdf; ComponentLink3Description: LM26LV Web Page; ComponentLink3URL: http://www.national.com/pf/LM/LM26LV.html; ComponentLink4Description: SDB06A Package Page; ComponentLink4URL: http://www.national.com/packaging/folders/sdb06a.html
footprint SDB06A (SON, 6-Leads, Body 2.2x2.5mm, Pitch 0.65mm, NSC Recommended (SC-70 Land))
pins: 1 TRIP TEST (in), 2 GND (power) "Ground", 3 ~{OVERTEMP} (oc), 4 VDD (power), 5 OVERTEMP (out), 6 VTEMP (out), 7 DAP (power) "Ground"

## LM26LVCISD-100/NOPB
designator U?
1.6V Factory Preset Temperature Switch and Temperature Sensor, 6-pin LLP, Pb-Free, 1000 Reel; PartNumber: LM26LVCISD-100/NOPB; Manufacturer: National Semiconductor; PackageTopMarking: XTT*100; PowerWise: Y; CompType: Temp Sensor IC; DatasheetVersion: Sep-2011; PackageVersion: revA, Nov-2003; PackageReference: SDB06A; PackageDescription: LLP, Plastic, Dual, 2.2 x 2.5 x 0.8mm Body, 6 Lead, 0.65mm Pitch, No Pullback; RoHS: Y; PinCount: 6; High-Reliability: Y; ComponentLink1Description: Manufacturer URL; ComponentLink1URL: http://www.national.com/; ComponentLink2Description: LM26LV Datasheet; ComponentLink2URL: http://www.national.com/ds/LM/LM26LV.pdf; ComponentLink3Description: LM26LV Web Page; ComponentLink3URL: http://www.national.com/pf/LM/LM26LV.html; ComponentLink4Description: SDB06A Package Page; ComponentLink4URL: http://www.national.com/packaging/folders/sdb06a.html
footprint SDB06A (SON, 6-Leads, Body 2.2x2.5mm, Pitch 0.65mm, NSC Recommended (SC-70 Land))
pins: 1 TRIP TEST (in), 2 GND (power) "Ground", 3 ~{OVERTEMP} (oc), 4 VDD (power), 5 OVERTEMP (out), 6 VTEMP (out), 7 DAP (power) "Ground"

## LM26LVCISD-105/NOPB
designator U?
1.6V Factory Preset Temperature Switch and Temperature Sensor, 6-pin LLP, Pb-Free, 1000 Reel; PartNumber: LM26LVCISD-105/NOPB; Manufacturer: National Semiconductor; PackageTopMarking: XTT*105; PowerWise: Y; CompType: Temp Sensor IC; DatasheetVersion: Sep-2011; PackageVersion: revA, Nov-2003; PackageReference: SDB06A; PackageDescription: LLP, Plastic, Dual, 2.2 x 2.5 x 0.8mm Body, 6 Lead, 0.65mm Pitch, No Pullback; RoHS: Y; PinCount: 6; High-Reliability: Y; ComponentLink1Description: Manufacturer URL; ComponentLink1URL: http://www.national.com/; ComponentLink2Description: LM26LV Datasheet; ComponentLink2URL: http://www.national.com/ds/LM/LM26LV.pdf; ComponentLink3Description: LM26LV Web Page; ComponentLink3URL: http://www.national.com/pf/LM/LM26LV.html; ComponentLink4Description: SDB06A Package Page; ComponentLink4URL: http://www.national.com/packaging/folders/sdb06a.html
footprint SDB06A (SON, 6-Leads, Body 2.2x2.5mm, Pitch 0.65mm, NSC Recommended (SC-70 Land))
pins: 1 TRIP TEST (in), 2 GND (power) "Ground", 3 ~{OVERTEMP} (oc), 4 VDD (power), 5 OVERTEMP (out), 6 VTEMP (out), 7 DAP (power) "Ground"

## LM26LVCISD-110/NOPB
designator U?
1.6V Factory Preset Temperature Switch and Temperature Sensor, 6-pin LLP, Pb-Free, 1000 Reel; PartNumber: LM26LVCISD-110/NOPB; Manufacturer: National Semiconductor; PackageTopMarking: XTT*110; PowerWise: Y; CompType: Temp Sensor IC; DatasheetVersion: Sep-2011; PackageVersion: revA, Nov-2003; PackageReference: SDB06A; PackageDescription: LLP, Plastic, Dual, 2.2 x 2.5 x 0.8mm Body, 6 Lead, 0.65mm Pitch, No Pullback; RoHS: Y; PinCount: 6; High-Reliability: Y; ComponentLink1Description: Manufacturer URL; ComponentLink1URL: http://www.national.com/; ComponentLink2Description: LM26LV Datasheet; ComponentLink2URL: http://www.national.com/ds/LM/LM26LV.pdf; ComponentLink3Description: LM26LV Web Page; ComponentLink3URL: http://www.national.com/pf/LM/LM26LV.html; ComponentLink4Description: SDB06A Package Page; ComponentLink4URL: http://www.national.com/packaging/folders/sdb06a.html
footprint SDB06A (SON, 6-Leads, Body 2.2x2.5mm, Pitch 0.65mm, NSC Recommended (SC-70 Land))
pins: 1 TRIP TEST (in), 2 GND (power) "Ground", 3 ~{OVERTEMP} (oc), 4 VDD (power), 5 OVERTEMP (out), 6 VTEMP (out), 7 DAP (power) "Ground"

## LM26LVCISD-115/NOPB
designator U?
1.6V Factory Preset Temperature Switch and Temperature Sensor, 6-pin LLP, Pb-Free, 1000 Reel; PartNumber: LM26LVCISD-115/NOPB; Manufacturer: National Semiconductor; PackageTopMarking: XTT*115; PowerWise: Y; CompType: Temp Sensor IC; DatasheetVersion: Sep-2011; PackageVersion: revA, Nov-2003; PackageReference: SDB06A; PackageDescription: LLP, Plastic, Dual, 2.2 x 2.5 x 0.8mm Body, 6 Lead, 0.65mm Pitch, No Pullback; RoHS: Y; PinCount: 6; High-Reliability: Y; ComponentLink1Description: Manufacturer URL; ComponentLink1URL: http://www.national.com/; ComponentLink2Description: LM26LV Datasheet; ComponentLink2URL: http://www.national.com/ds/LM/LM26LV.pdf; ComponentLink3Description: LM26LV Web Page; ComponentLink3URL: http://www.national.com/pf/LM/LM26LV.html; ComponentLink4Description: SDB06A Package Page; ComponentLink4URL: http://www.national.com/packaging/folders/sdb06a.html
footprint SDB06A (SON, 6-Leads, Body 2.2x2.5mm, Pitch 0.65mm, NSC Recommended (SC-70 Land))
pins: 1 TRIP TEST (in), 2 GND (power) "Ground", 3 ~{OVERTEMP} (oc), 4 VDD (power), 5 OVERTEMP (out), 6 VTEMP (out), 7 DAP (power) "Ground"

## LM26LVCISD-120/NOPB
designator U?
1.6V Factory Preset Temperature Switch and Temperature Sensor, 6-pin LLP, Pb-Free, 1000 Reel; PartNumber: LM26LVCISD-120/NOPB; Manufacturer: National Semiconductor; PackageTopMarking: XTT*120; PowerWise: Y; CompType: Temp Sensor IC; DatasheetVersion: Sep-2011; PackageVersion: revA, Nov-2003; PackageReference: SDB06A; PackageDescription: LLP, Plastic, Dual, 2.2 x 2.5 x 0.8mm Body, 6 Lead, 0.65mm Pitch, No Pullback; RoHS: Y; PinCount: 6; High-Reliability: Y; ComponentLink1Description: Manufacturer URL; ComponentLink1URL: http://www.national.com/; ComponentLink2Description: LM26LV Datasheet; ComponentLink2URL: http://www.national.com/ds/LM/LM26LV.pdf; ComponentLink3Description: LM26LV Web Page; ComponentLink3URL: http://www.national.com/pf/LM/LM26LV.html; ComponentLink4Description: SDB06A Package Page; ComponentLink4URL: http://www.national.com/packaging/folders/sdb06a.html
footprint SDB06A (SON, 6-Leads, Body 2.2x2.5mm, Pitch 0.65mm, NSC Recommended (SC-70 Land))
pins: 1 TRIP TEST (in), 2 GND (power) "Ground", 3 ~{OVERTEMP} (oc), 4 VDD (power), 5 OVERTEMP (out), 6 VTEMP (out), 7 DAP (power) "Ground"

## LM26LVCISD-125/NOPB
designator U?
1.6V Factory Preset Temperature Switch and Temperature Sensor, 6-pin LLP, Pb-Free, 1000 Reel; PartNumber: LM26LVCISD-125/NOPB; Manufacturer: National Semiconductor; PackageTopMarking: XTT*125; PowerWise: Y; CompType: Temp Sensor IC; DatasheetVersion: Sep-2011; PackageVersion: revA, Nov-2003; PackageReference: SDB06A; PackageDescription: LLP, Plastic, Dual, 2.2 x 2.5 x 0.8mm Body, 6 Lead, 0.65mm Pitch, No Pullback; RoHS: Y; PinCount: 6; High-Reliability: Y; ComponentLink1Description: Manufacturer URL; ComponentLink1URL: http://www.national.com/; ComponentLink2Description: LM26LV Datasheet; ComponentLink2URL: http://www.national.com/ds/LM/LM26LV.pdf; ComponentLink3Description: LM26LV Web Page; ComponentLink3URL: http://www.national.com/pf/LM/LM26LV.html; ComponentLink4Description: SDB06A Package Page; ComponentLink4URL: http://www.national.com/packaging/folders/sdb06a.html
footprint SDB06A (SON, 6-Leads, Body 2.2x2.5mm, Pitch 0.65mm, NSC Recommended (SC-70 Land))
pins: 1 TRIP TEST (in), 2 GND (power) "Ground", 3 ~{OVERTEMP} (oc), 4 VDD (power), 5 OVERTEMP (out), 6 VTEMP (out), 7 DAP (power) "Ground"

## LM26LVCISD-130/NOPB
designator U?
1.6V Factory Preset Temperature Switch and Temperature Sensor, 6-pin LLP, Pb-Free, 1000 Reel; PartNumber: LM26LVCISD-130/NOPB; Manufacturer: National Semiconductor; PackageTopMarking: XTT*130; PowerWise: Y; CompType: Temp Sensor IC; DatasheetVersion: Sep-2011; PackageVersion: revA, Nov-2003; PackageReference: SDB06A; PackageDescription: LLP, Plastic, Dual, 2.2 x 2.5 x 0.8mm Body, 6 Lead, 0.65mm Pitch, No Pullback; RoHS: Y; PinCount: 6; High-Reliability: Y; ComponentLink1Description: Manufacturer URL; ComponentLink1URL: http://www.national.com/; ComponentLink2Description: LM26LV Datasheet; ComponentLink2URL: http://www.national.com/ds/LM/LM26LV.pdf; ComponentLink3Description: LM26LV Web Page; ComponentLink3URL: http://www.national.com/pf/LM/LM26LV.html; ComponentLink4Description: SDB06A Package Page; ComponentLink4URL: http://www.national.com/packaging/folders/sdb06a.html
footprint SDB06A (SON, 6-Leads, Body 2.2x2.5mm, Pitch 0.65mm, NSC Recommended (SC-70 Land))
pins: 1 TRIP TEST (in), 2 GND (power) "Ground", 3 ~{OVERTEMP} (oc), 4 VDD (power), 5 OVERTEMP (out), 6 VTEMP (out), 7 DAP (power) "Ground"

## LM26LVCISD-135/NOPB
designator U?
1.6V Factory Preset Temperature Switch and Temperature Sensor, 6-pin LLP, Pb-Free, 1000 Reel; PartNumber: LM26LVCISD-135/NOPB; Manufacturer: National Semiconductor; PackageTopMarking: XTT*135; PowerWise: Y; CompType: Temp Sensor IC; DatasheetVersion: Sep-2011; PackageVersion: revA, Nov-2003; PackageReference: SDB06A; PackageDescription: LLP, Plastic, Dual, 2.2 x 2.5 x 0.8mm Body, 6 Lead, 0.65mm Pitch, No Pullback; RoHS: Y; PinCount: 6; High-Reliability: Y; ComponentLink1Description: Manufacturer URL; ComponentLink1URL: http://www.national.com/; ComponentLink2Description: LM26LV Datasheet; ComponentLink2URL: http://www.national.com/ds/LM/LM26LV.pdf; ComponentLink3Description: LM26LV Web Page; ComponentLink3URL: http://www.national.com/pf/LM/LM26LV.html; ComponentLink4Description: SDB06A Package Page; ComponentLink4URL: http://www.national.com/packaging/folders/sdb06a.html
footprint SDB06A (SON, 6-Leads, Body 2.2x2.5mm, Pitch 0.65mm, NSC Recommended (SC-70 Land))
pins: 1 TRIP TEST (in), 2 GND (power) "Ground", 3 ~{OVERTEMP} (oc), 4 VDD (power), 5 OVERTEMP (out), 6 VTEMP (out), 7 DAP (power) "Ground"

## LM26LVCISD-140/NOPB
designator U?
1.6V Factory Preset Temperature Switch and Temperature Sensor, 6-pin LLP, Pb-Free, 1000 Reel; PartNumber: LM26LVCISD-140/NOPB; Manufacturer: National Semiconductor; PackageTopMarking: XTT*140; PowerWise: Y; CompType: Temp Sensor IC; DatasheetVersion: Sep-2011; PackageVersion: revA, Nov-2003; PackageReference: SDB06A; PackageDescription: LLP, Plastic, Dual, 2.2 x 2.5 x 0.8mm Body, 6 Lead, 0.65mm Pitch, No Pullback; RoHS: Y; PinCount: 6; High-Reliability: Y; ComponentLink1Description: Manufacturer URL; ComponentLink1URL: http://www.national.com/; ComponentLink2Description: LM26LV Datasheet; ComponentLink2URL: http://www.national.com/ds/LM/LM26LV.pdf; ComponentLink3Description: LM26LV Web Page; ComponentLink3URL: http://www.national.com/pf/LM/LM26LV.html; ComponentLink4Description: SDB06A Package Page; ComponentLink4URL: http://www.national.com/packaging/folders/sdb06a.html
footprint SDB06A (SON, 6-Leads, Body 2.2x2.5mm, Pitch 0.65mm, NSC Recommended (SC-70 Land))
pins: 1 TRIP TEST (in), 2 GND (power) "Ground", 3 ~{OVERTEMP} (oc), 4 VDD (power), 5 OVERTEMP (out), 6 VTEMP (out), 7 DAP (power) "Ground"

## LM26LVCISD-145/NOPB
designator U?
1.6V Factory Preset Temperature Switch and Temperature Sensor, 6-pin LLP, Pb-Free, 1000 Reel; PartNumber: LM26LVCISD-145/NOPB; Manufacturer: National Semiconductor; PackageTopMarking: XTT*145; PowerWise: Y; CompType: Temp Sensor IC; DatasheetVersion: Sep-2011; PackageVersion: revA, Nov-2003; PackageReference: SDB06A; PackageDescription: LLP, Plastic, Dual, 2.2 x 2.5 x 0.8mm Body, 6 Lead, 0.65mm Pitch, No Pullback; RoHS: Y; PinCount: 6; High-Reliability: Y; ComponentLink1Description: Manufacturer URL; ComponentLink1URL: http://www.national.com/; ComponentLink2Description: LM26LV Datasheet; ComponentLink2URL: http://www.national.com/ds/LM/LM26LV.pdf; ComponentLink3Description: LM26LV Web Page; ComponentLink3URL: http://www.national.com/pf/LM/LM26LV.html; ComponentLink4Description: SDB06A Package Page; ComponentLink4URL: http://www.national.com/packaging/folders/sdb06a.html
footprint SDB06A (SON, 6-Leads, Body 2.2x2.5mm, Pitch 0.65mm, NSC Recommended (SC-70 Land))
pins: 1 TRIP TEST (in), 2 GND (power) "Ground", 3 ~{OVERTEMP} (oc), 4 VDD (power), 5 OVERTEMP (out), 6 VTEMP (out), 7 DAP (power) "Ground"

## LM26LVCISD-150/NOPB
designator U?
1.6V Factory Preset Temperature Switch and Temperature Sensor, 6-pin LLP, Pb-Free, 1000 Reel; PartNumber: LM26LVCISD-150/NOPB; Manufacturer: National Semiconductor; PackageTopMarking: XTT*150; PowerWise: Y; CompType: Temp Sensor IC; DatasheetVersion: Sep-2011; PackageVersion: revA, Nov-2003; PackageReference: SDB06A; PackageDescription: LLP, Plastic, Dual, 2.2 x 2.5 x 0.8mm Body, 6 Lead, 0.65mm Pitch, No Pullback; RoHS: Y; PinCount: 6; High-Reliability: Y; ComponentLink1Description: Manufacturer URL; ComponentLink1URL: http://www.national.com/; ComponentLink2Description: LM26LV Datasheet; ComponentLink2URL: http://www.national.com/ds/LM/LM26LV.pdf; ComponentLink3Description: LM26LV Web Page; ComponentLink3URL: http://www.national.com/pf/LM/LM26LV.html; ComponentLink4Description: SDB06A Package Page; ComponentLink4URL: http://www.national.com/packaging/folders/sdb06a.html
footprint SDB06A (SON, 6-Leads, Body 2.2x2.5mm, Pitch 0.65mm, NSC Recommended (SC-70 Land))
pins: 1 TRIP TEST (in), 2 GND (power) "Ground", 3 ~{OVERTEMP} (oc), 4 VDD (power), 5 OVERTEMP (out), 6 VTEMP (out), 7 DAP (power) "Ground"

## LM26LVCISDX-050/NOPB
designator U?
1.6V Factory Preset Temperature Switch and Temperature Sensor, 6-pin LLP, Pb-Free, 4500 Reel; PartNumber: LM26LVCISDX-050/NOPB; Manufacturer: National Semiconductor; PackageTopMarking: XTT*050; PowerWise: Y; CompType: Temp Sensor IC; DatasheetVersion: Sep-2011; PackageVersion: revA, Nov-2003; PackageReference: SDB06A; PackageDescription: LLP, Plastic, Dual, 2.2 x 2.5 x 0.8mm Body, 6 Lead, 0.65mm Pitch, No Pullback; RoHS: Y; PinCount: 6; High-Reliability: Y; ComponentLink1Description: Manufacturer URL; ComponentLink1URL: http://www.national.com/; ComponentLink2Description: LM26LV Datasheet; ComponentLink2URL: http://www.national.com/ds/LM/LM26LV.pdf; ComponentLink3Description: LM26LV Web Page; ComponentLink3URL: http://www.national.com/pf/LM/LM26LV.html; ComponentLink4Description: SDB06A Package Page; ComponentLink4URL: http://www.national.com/packaging/folders/sdb06a.html
footprint SDB06A (SON, 6-Leads, Body 2.2x2.5mm, Pitch 0.65mm, NSC Recommended (SC-70 Land))
pins: 1 TRIP TEST (in), 2 GND (power) "Ground", 3 ~{OVERTEMP} (oc), 4 VDD (power), 5 OVERTEMP (out), 6 VTEMP (out), 7 DAP (power) "Ground"

## LM26LVCISDX-060/NOPB
designator U?
1.6V Factory Preset Temperature Switch and Temperature Sensor, 6-pin LLP, Pb-Free, 4500 Reel; PartNumber: LM26LVCISDX-060/NOPB; Manufacturer: National Semiconductor; PackageTopMarking: XTT*060; PowerWise: Y; CompType: Temp Sensor IC; DatasheetVersion: Sep-2011; PackageVersion: revA, Nov-2003; PackageReference: SDB06A; PackageDescription: LLP, Plastic, Dual, 2.2 x 2.5 x 0.8mm Body, 6 Lead, 0.65mm Pitch, No Pullback; RoHS: Y; PinCount: 6; High-Reliability: Y; ComponentLink1Description: Manufacturer URL; ComponentLink1URL: http://www.national.com/; ComponentLink2Description: LM26LV Datasheet; ComponentLink2URL: http://www.national.com/ds/LM/LM26LV.pdf; ComponentLink3Description: LM26LV Web Page; ComponentLink3URL: http://www.national.com/pf/LM/LM26LV.html; ComponentLink4Description: SDB06A Package Page; ComponentLink4URL: http://www.national.com/packaging/folders/sdb06a.html
footprint SDB06A (SON, 6-Leads, Body 2.2x2.5mm, Pitch 0.65mm, NSC Recommended (SC-70 Land))
pins: 1 TRIP TEST (in), 2 GND (power) "Ground", 3 ~{OVERTEMP} (oc), 4 VDD (power), 5 OVERTEMP (out), 6 VTEMP (out), 7 DAP (power) "Ground"

## LM26LVCISDX-065/NOPB
designator U?
1.6V Factory Preset Temperature Switch and Temperature Sensor, 6-pin LLP, Pb-Free, 4500 Reel; PartNumber: LM26LVCISDX-065/NOPB; Manufacturer: National Semiconductor; PackageTopMarking: XTT*065; PowerWise: Y; CompType: Temp Sensor IC; DatasheetVersion: Sep-2011; PackageVersion: revA, Nov-2003; PackageReference: SDB06A; PackageDescription: LLP, Plastic, Dual, 2.2 x 2.5 x 0.8mm Body, 6 Lead, 0.65mm Pitch, No Pullback; RoHS: Y; PinCount: 6; High-Reliability: Y; ComponentLink1Description: Manufacturer URL; ComponentLink1URL: http://www.national.com/; ComponentLink2Description: LM26LV Datasheet; ComponentLink2URL: http://www.national.com/ds/LM/LM26LV.pdf; ComponentLink3Description: LM26LV Web Page; ComponentLink3URL: http://www.national.com/pf/LM/LM26LV.html; ComponentLink4Description: SDB06A Package Page; ComponentLink4URL: http://www.national.com/packaging/folders/sdb06a.html
footprint SDB06A (SON, 6-Leads, Body 2.2x2.5mm, Pitch 0.65mm, NSC Recommended (SC-70 Land))
pins: 1 TRIP TEST (in), 2 GND (power) "Ground", 3 ~{OVERTEMP} (oc), 4 VDD (power), 5 OVERTEMP (out), 6 VTEMP (out), 7 DAP (power) "Ground"

## LM26LVCISDX-070/NOPB
designator U?
1.6V Factory Preset Temperature Switch and Temperature Sensor, 6-pin LLP, Pb-Free, 4500 Reel; PartNumber: LM26LVCISDX-070/NOPB; Manufacturer: National Semiconductor; PackageTopMarking: XTT*070; PowerWise: Y; CompType: Temp Sensor IC; DatasheetVersion: Sep-2011; PackageVersion: revA, Nov-2003; PackageReference: SDB06A; PackageDescription: LLP, Plastic, Dual, 2.2 x 2.5 x 0.8mm Body, 6 Lead, 0.65mm Pitch, No Pullback; RoHS: Y; PinCount: 6; High-Reliability: Y; ComponentLink1Description: Manufacturer URL; ComponentLink1URL: http://www.national.com/; ComponentLink2Description: LM26LV Datasheet; ComponentLink2URL: http://www.national.com/ds/LM/LM26LV.pdf; ComponentLink3Description: LM26LV Web Page; ComponentLink3URL: http://www.national.com/pf/LM/LM26LV.html; ComponentLink4Description: SDB06A Package Page; ComponentLink4URL: http://www.national.com/packaging/folders/sdb06a.html
footprint SDB06A (SON, 6-Leads, Body 2.2x2.5mm, Pitch 0.65mm, NSC Recommended (SC-70 Land))
pins: 1 TRIP TEST (in), 2 GND (power) "Ground", 3 ~{OVERTEMP} (oc), 4 VDD (power), 5 OVERTEMP (out), 6 VTEMP (out), 7 DAP (power) "Ground"

## LM26LVCISDX-075/NOPB
designator U?
1.6V Factory Preset Temperature Switch and Temperature Sensor, 6-pin LLP, Pb-Free, 4500 Reel; PartNumber: LM26LVCISDX-075/NOPB; Manufacturer: National Semiconductor; PackageTopMarking: XTT*075; PowerWise: Y; CompType: Temp Sensor IC; DatasheetVersion: Sep-2011; PackageVersion: revA, Nov-2003; PackageReference: SDB06A; PackageDescription: LLP, Plastic, Dual, 2.2 x 2.5 x 0.8mm Body, 6 Lead, 0.65mm Pitch, No Pullback; RoHS: Y; PinCount: 6; High-Reliability: Y; ComponentLink1Description: Manufacturer URL; ComponentLink1URL: http://www.national.com/; ComponentLink2Description: LM26LV Datasheet; ComponentLink2URL: http://www.national.com/ds/LM/LM26LV.pdf; ComponentLink3Description: LM26LV Web Page; ComponentLink3URL: http://www.national.com/pf/LM/LM26LV.html; ComponentLink4Description: SDB06A Package Page; ComponentLink4URL: http://www.national.com/packaging/folders/sdb06a.html
footprint SDB06A (SON, 6-Leads, Body 2.2x2.5mm, Pitch 0.65mm, NSC Recommended (SC-70 Land))
pins: 1 TRIP TEST (in), 2 GND (power) "Ground", 3 ~{OVERTEMP} (oc), 4 VDD (power), 5 OVERTEMP (out), 6 VTEMP (out), 7 DAP (power) "Ground"

## LM26LVCISDX-080/NOPB
designator U?
1.6V Factory Preset Temperature Switch and Temperature Sensor, 6-pin LLP, Pb-Free, 4500 Reel; PartNumber: LM26LVCISDX-080/NOPB; Manufacturer: National Semiconductor; PackageTopMarking: XTT*080; PowerWise: Y; CompType: Temp Sensor IC; DatasheetVersion: Sep-2011; PackageVersion: revA, Nov-2003; PackageReference: SDB06A; PackageDescription: LLP, Plastic, Dual, 2.2 x 2.5 x 0.8mm Body, 6 Lead, 0.65mm Pitch, No Pullback; RoHS: Y; PinCount: 6; High-Reliability: Y; ComponentLink1Description: Manufacturer URL; ComponentLink1URL: http://www.national.com/; ComponentLink2Description: LM26LV Datasheet; ComponentLink2URL: http://www.national.com/ds/LM/LM26LV.pdf; ComponentLink3Description: LM26LV Web Page; ComponentLink3URL: http://www.national.com/pf/LM/LM26LV.html; ComponentLink4Description: SDB06A Package Page; ComponentLink4URL: http://www.national.com/packaging/folders/sdb06a.html
footprint SDB06A (SON, 6-Leads, Body 2.2x2.5mm, Pitch 0.65mm, NSC Recommended (SC-70 Land))
pins: 1 TRIP TEST (in), 2 GND (power) "Ground", 3 ~{OVERTEMP} (oc), 4 VDD (power), 5 OVERTEMP (out), 6 VTEMP (out), 7 DAP (power) "Ground"

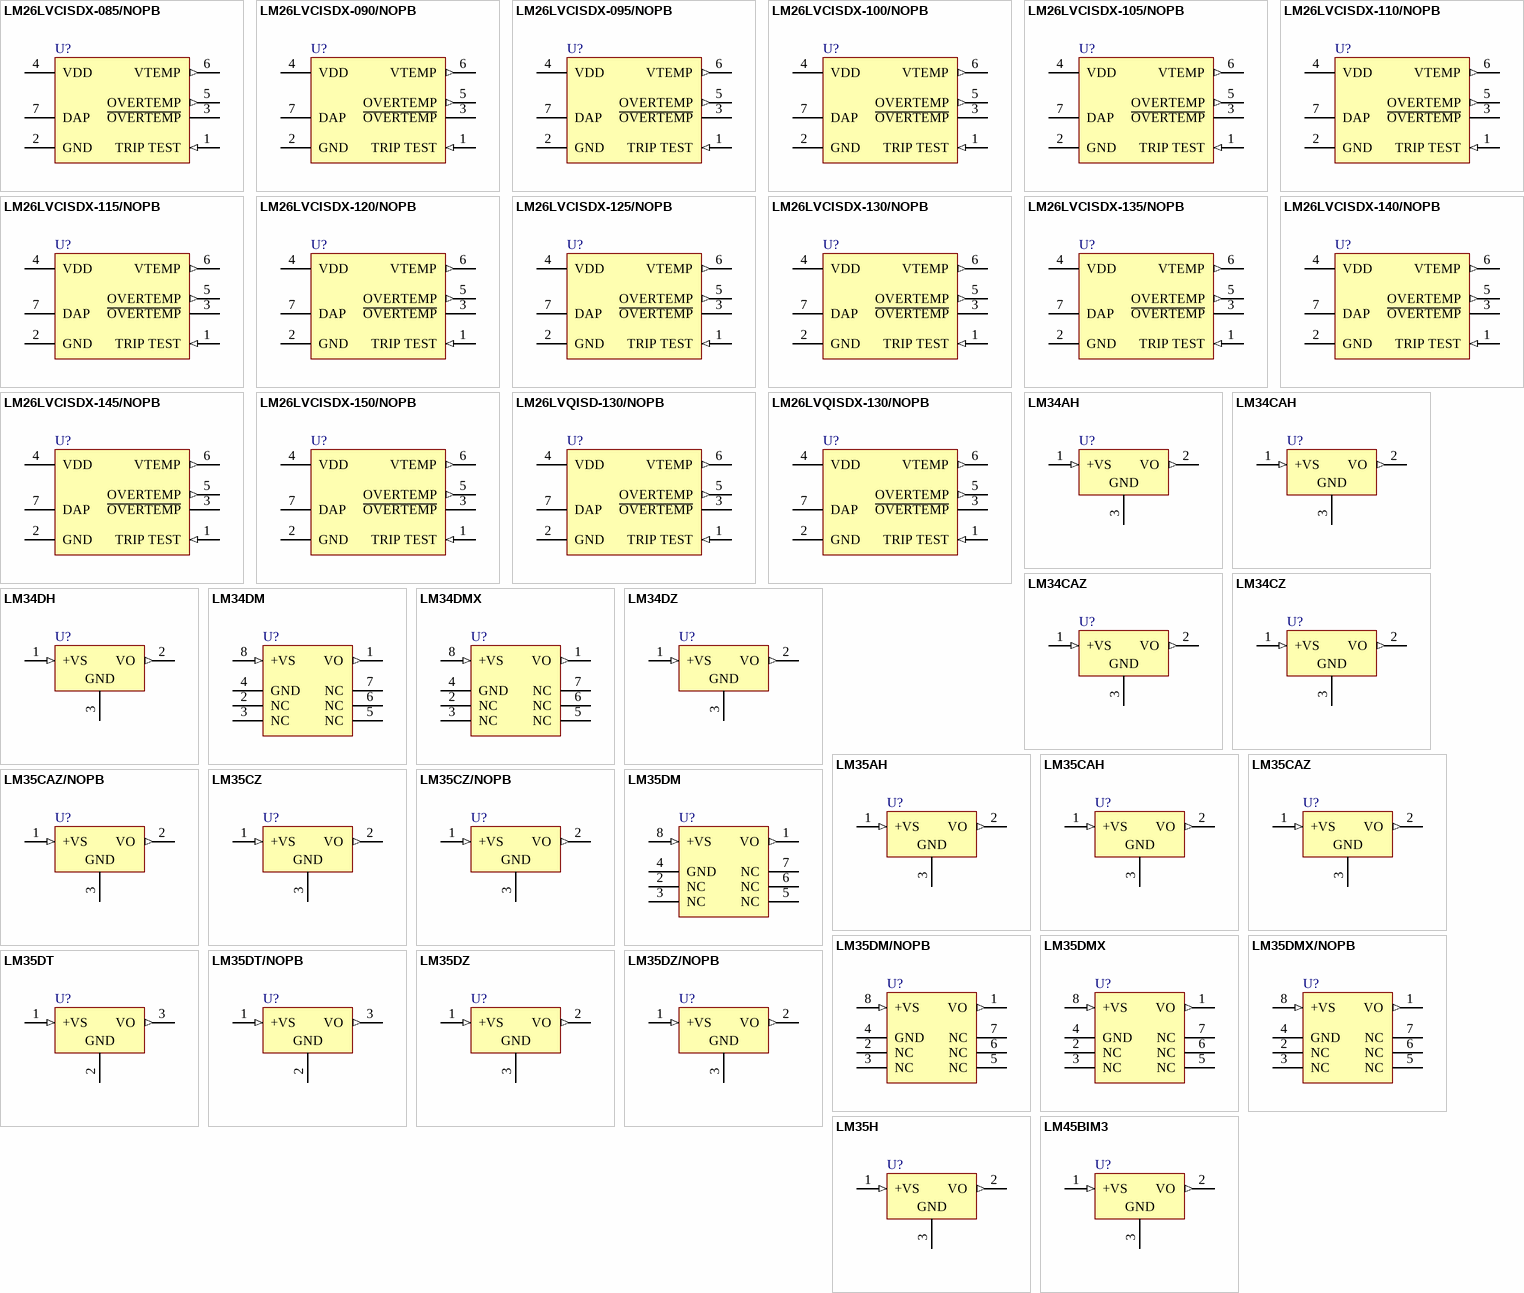
[diagram p1: symbols LM26LVCISDX-085/NOPB to LM45BIM3]

## LM26LVCISDX-085/NOPB
designator U?
1.6V Factory Preset Temperature Switch and Temperature Sensor, 6-pin LLP, Pb-Free, 4500 Reel; PartNumber: LM26LVCISDX-085/NOPB; Manufacturer: National Semiconductor; PackageTopMarking: XTT*085; PowerWise: Y; CompType: Temp Sensor IC; DatasheetVersion: Sep-2011; PackageVersion: revA, Nov-2003; PackageReference: SDB06A; PackageDescription: LLP, Plastic, Dual, 2.2 x 2.5 x 0.8mm Body, 6 Lead, 0.65mm Pitch, No Pullback; RoHS: Y; PinCount: 6; High-Reliability: Y; ComponentLink1Description: Manufacturer URL; ComponentLink1URL: http://www.national.com/; ComponentLink2Description: LM26LV Datasheet; ComponentLink2URL: http://www.national.com/ds/LM/LM26LV.pdf; ComponentLink3Description: LM26LV Web Page; ComponentLink3URL: http://www.national.com/pf/LM/LM26LV.html; ComponentLink4Description: SDB06A Package Page; ComponentLink4URL: http://www.national.com/packaging/folders/sdb06a.html
footprint SDB06A (SON, 6-Leads, Body 2.2x2.5mm, Pitch 0.65mm, NSC Recommended (SC-70 Land))
pins: 1 TRIP TEST (in), 2 GND (power) "Ground", 3 ~{OVERTEMP} (oc), 4 VDD (power), 5 OVERTEMP (out), 6 VTEMP (out), 7 DAP (power) "Ground"

## LM26LVCISDX-090/NOPB
designator U?
1.6V Factory Preset Temperature Switch and Temperature Sensor, 6-pin LLP, Pb-Free, 4500 Reel; PartNumber: LM26LVCISDX-090/NOPB; Manufacturer: National Semiconductor; PackageTopMarking: XTT*090; PowerWise: Y; CompType: Temp Sensor IC; DatasheetVersion: Sep-2011; PackageVersion: revA, Nov-2003; PackageReference: SDB06A; PackageDescription: LLP, Plastic, Dual, 2.2 x 2.5 x 0.8mm Body, 6 Lead, 0.65mm Pitch, No Pullback; RoHS: Y; PinCount: 6; High-Reliability: Y; ComponentLink1Description: Manufacturer URL; ComponentLink1URL: http://www.national.com/; ComponentLink2Description: LM26LV Datasheet; ComponentLink2URL: http://www.national.com/ds/LM/LM26LV.pdf; ComponentLink3Description: LM26LV Web Page; ComponentLink3URL: http://www.national.com/pf/LM/LM26LV.html; ComponentLink4Description: SDB06A Package Page; ComponentLink4URL: http://www.national.com/packaging/folders/sdb06a.html
footprint SDB06A (SON, 6-Leads, Body 2.2x2.5mm, Pitch 0.65mm, NSC Recommended (SC-70 Land))
pins: 1 TRIP TEST (in), 2 GND (power) "Ground", 3 ~{OVERTEMP} (oc), 4 VDD (power), 5 OVERTEMP (out), 6 VTEMP (out), 7 DAP (power) "Ground"